# Altium integrated library TI_Logic_Specialty_Logic.IntLib: 2504 symbols (part 71 of 81)
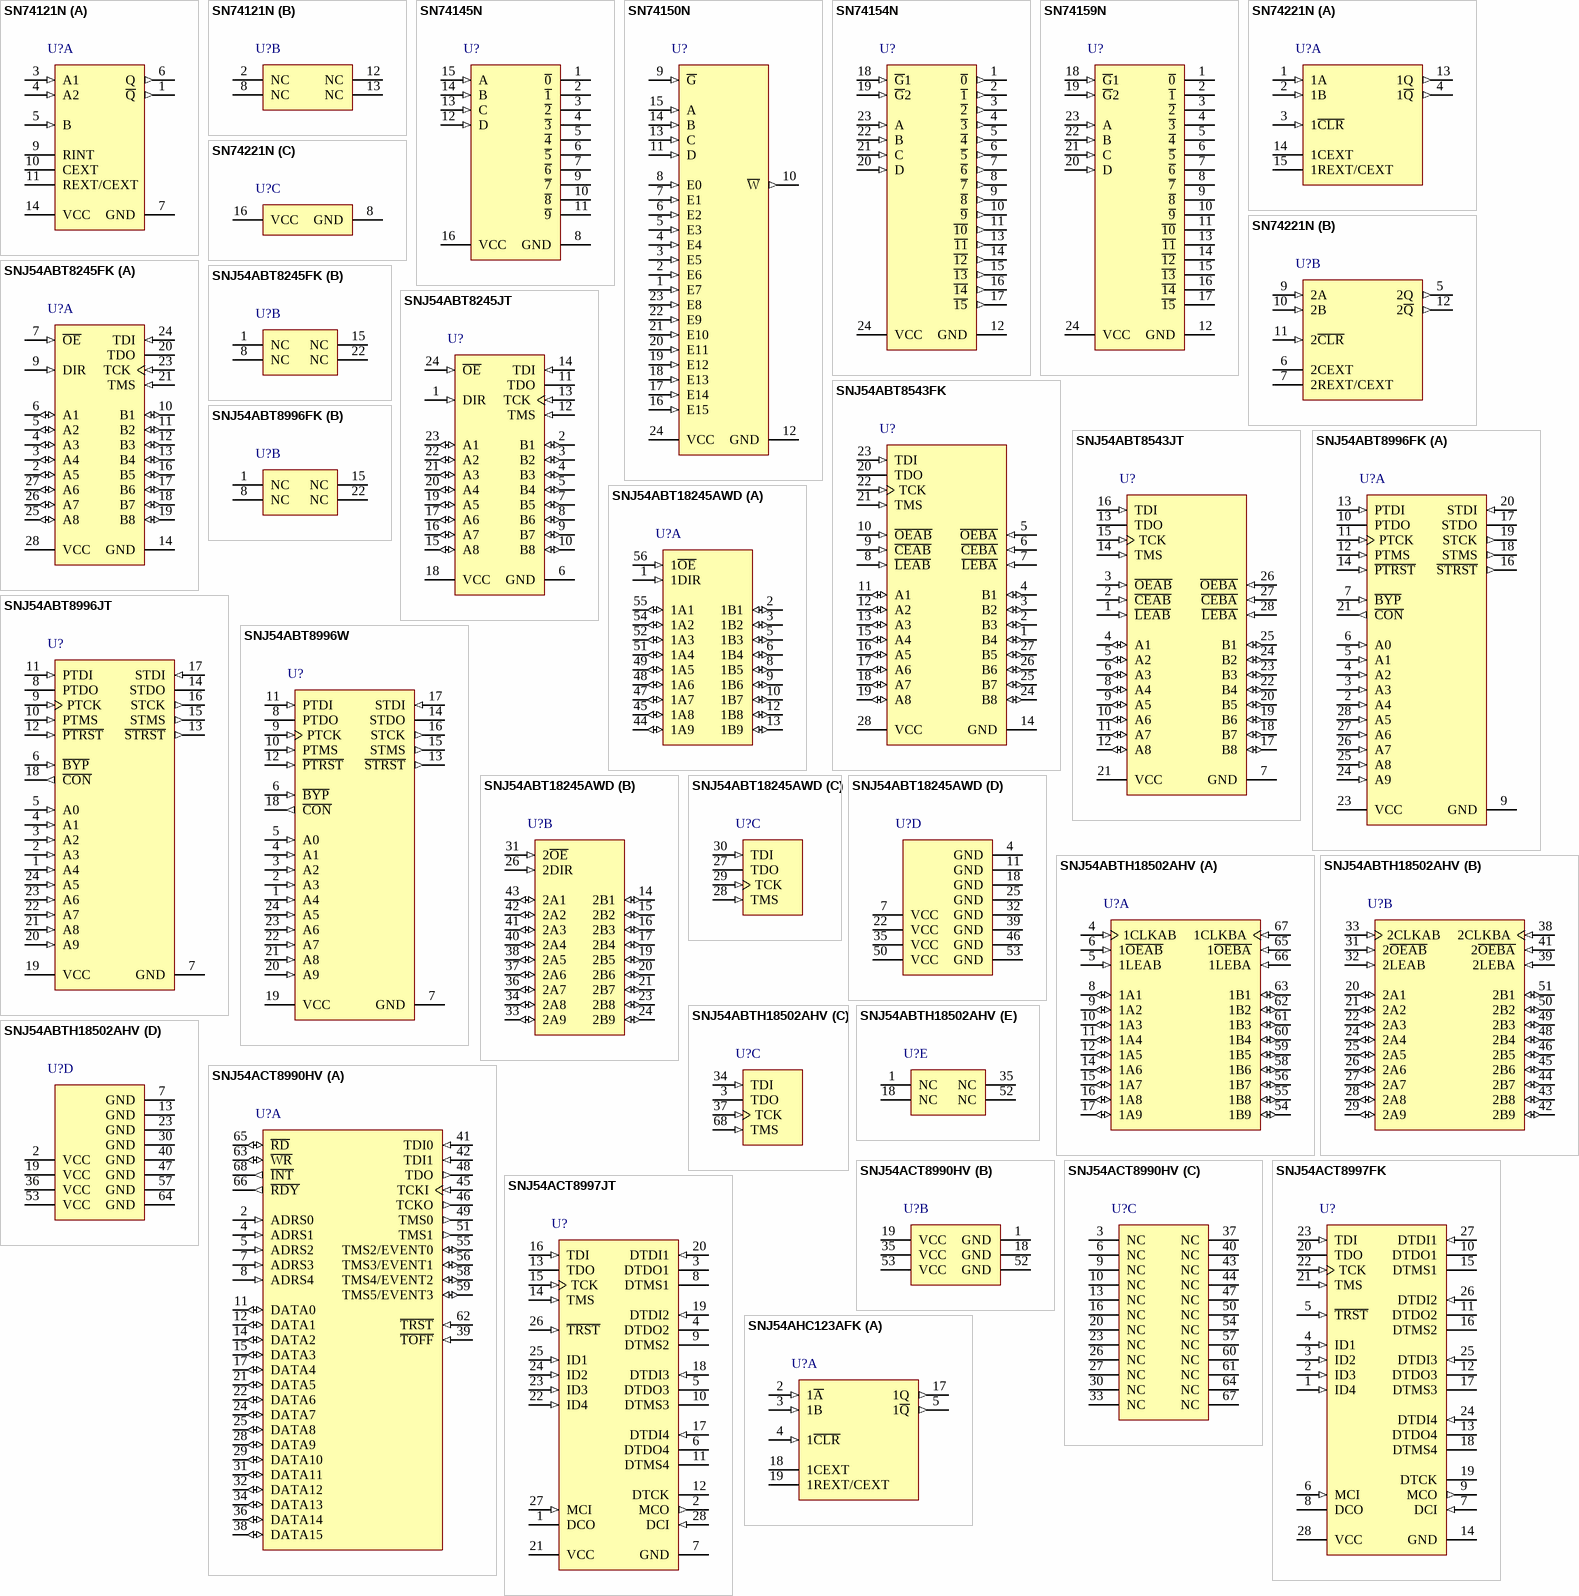
[diagram p174: symbols SN74121N to SNJ54AHC123AFK]

## SNJ54ACT8997FK
designator U?
Scan Path Linkers With 4-Bit Identification Buses, FK0028A, TUBE; Generic Part Number: SN54ACT8997; Manufacturer: Texas Instruments; PartNumber: SNJ54ACT8997FK; VCC(Min)(V): 4.5; VCC(Max)(V): 5.5; Output Type: CMOS; Input Type: TTL; Rating: Military; Technology Family: ACT; DatasheetVersion: SCAS157D; PackageReference: FK0028A; Operating Temperature Range(C): -55 to 125; Code_JEDEC: MS-004; ComponentLink1Description: Manufacturer URL; ComponentLink1URL: http://www.ti.com/; ComponentLink2Description: Datasheet; ComponentLink2URL: http://www.ti.com/lit/ds/symlink/sn54act8997.pdf; ComponentLink3Description: Package Specification; ComponentLink3URL: http://www.ti.com/lit/ml/mlcc006d/mlcc006d.pdf
footprint FD0028A_N (LCC, 28-Leads, Body 11.43x11.43mm, Pitch 1.27mm, IPC Medium Density)
footprint FD0028A_M (LCC, 28-Leads, Body 11.43x11.43mm, Pitch 1.27mm, IPC Low Density)
footprint FD0028A_L (LCC, 28-Leads, Body 11.43x11.43mm, Pitch 1.27mm, IPC High Density)
pins: 1 ID4 (in) "Identification 1-4. This 4-bit data bus can be hardwired to provide identification of the subsystem under test. The value present on the bus can be scanned out through the boundary scan or ID bus registers.", 2 ID3 (in) "Identification 1-4. This 4-bit data bus can be hardwired to provide identification of the subsystem under test. The value present on the bus can be scanned out through the boundary scan or ID bus registers.", 3 ID2 (in) "Identification 1-4. This 4-bit data bus can be hardwired to provide identification of the subsystem under test. The value present on the bus can be scanned out through the boundary scan or ID bus registers.", 4 ID1 (in) "Identification 1-4. This 4-bit data bus can be hardwired to provide identification of the subsystem under test. The value present on the bus can be scanned out through the boundary scan or ID bus registers.", 5 ~{TRST} (in) "Test reset. This active-low input implements the optional reset terminal of IEEE Standard 1149.1. When asserted,T\R\S\T\ causes the ’ACT8997 to go to the Test-Logic-Reset state and configure the instruction register an(See Datasheet)", 6 MCI (in) "Master condition input. MCI receives interrupt and protocol signals from a primary bus controller (PBC). The level on MCI is buffered and output on MCO.", 7 DCI (in) "Device condition input. DCI receives interrupt and protocol signals from the secondary scan path(s). When the counter register is instructed to count up or down, DCI is configured as the counter clock.", 8 DCO (hiz) "Device condition output. DCO is configured by the control register to output protocol and interrupt signals and can be configured by the control register to output an error signal if the instruction register is loaded with (See Datasheet)", 9 MCO (out) "Master condition output. MCO transmits interrupt and protocol signals to the secondary scan path(s).", 10 DTDO1 (hiz) "Device test data output 1-4. These outputs send serial test data to the TDI input(s) of the secondary scan path(s).", 11 DTDO2 (hiz) "Device test data output 1-4. These outputs send serial test data to the TDI input(s) of the secondary scan path(s).", 12 DTDO3 (hiz) "Device test data output 1-4. These outputs send serial test data to the TDI input(s) of the secondary scan path(s).", 13 DTDO4 (hiz) "Device test data output 1-4. These outputs send serial test data to the TDI input(s) of the secondary scan path(s).", 14 GND (power) "Ground", 15 DTMS1 (hiz) "Device test mode select 1-4. Any combination of these four outputs can be selected to follow TMS to direct the secondary scan path(s) through the TAP controller states in Figure 1. The unselected DTMS outputs can be set (See Datasheet)", 16 DTMS2 (hiz) "Device test mode select 1-4. Any combination of these four outputs can be selected to follow TMS to direct the secondary scan path(s) through the TAP controller states in Figure 1. The unselected DTMS outputs can be set (See Datasheet)", 17 DTMS3 (hiz) "Device test mode select 1-4. Any combination of these four outputs can be selected to follow TMS to direct the secondary scan path(s) through the TAP controller states in Figure 1. The unselected DTMS outputs can be set (See Datasheet)", 18 DTMS4 (hiz) "Device test mode select 1-4. Any combination of these four outputs can be selected to follow TMS to direct the secondary scan path(s) through the TAP controller states in Figure 1. The unselected DTMS outputs can be set (See Datasheet)", 19 DTCK (hiz) "Device test clock. DTCK outputs the buffered test clock TCK to the secondary scan path(s).", 20 TDO (hiz) "Test data output. One of four terminals required by IEEE Standard 1149.1. TDO is the serial output for shifting information out of the instruction register or selected data register. TDO is typically connected to the TDI of (See Datasheet)", 21 TMS (in) "Test mode select. One of four terminals required by IEEE Standard 1149.1. The level of TMS at the rising edge of TCK directs the ’ACT8997 through its TAP controller states. An internal pullup forces TMS to a high level i(See Datasheet)", 22 TCK (in) "Test clock. One of four terminals required by IEEE Standard 1149.1. All operations of the ’ACT8997 except for the count function are synchronous to TCK. Data on the device inputs is captured on the rising edge of TCK, an(See Datasheet)", 23 TDI (in) "Test data input. One of four terminals required by IEEE Standard 1149.1. TDI is the serial input for shifting information into the instruction register or selected data register. TDI is typically driven by the TDO of the PBC.(See Datasheet)", 24 DTDI4 (in) "Device test data output 1-4. These outputs send serial test data to the TDI input(s) of the secondary scan path(s).", 25 DTDI3 (in) "Device test data output 1-4. These outputs send serial test data to the TDI input(s) of the secondary scan path(s).", 26 DTDI2 (in) "Device test data output 1-4. These outputs send serial test data to the TDI input(s) of the secondary scan path(s).", 27 DTDI1 (in) "Device test data output 1-4. These outputs send serial test data to the TDI input(s) of the secondary scan path(s).", 28 VCC (power) "Supply voltage"

## SNJ54ACT8997JT
designator U?
Scan Path Linkers With 4-Bit Identification Buses, JT0028A, TUBE; Generic Part Number: SN54ACT8997; Manufacturer: Texas Instruments; PartNumber: SNJ54ACT8997JT; VCC(Min)(V): 4.5; VCC(Max)(V): 5.5; Output Type: CMOS; Input Type: TTL; Rating: Military; Technology Family: ACT; DatasheetVersion: SCAS157D; PackageReference: JT0028A; Operating Temperature Range(C): -55 to 125; ComponentLink1Description: Manufacturer URL; ComponentLink1URL: http://www.ti.com/; ComponentLink2Description: Datasheet; ComponentLink2URL: http://www.ti.com/lit/ds/symlink/sn54act8997.pdf
footprint JT0028A (DIP, 28-Leads, Body 37.1x7.2mm, Pitch 2.54mm)
pins: 1 DCO (hiz) "Device condition output. DCO is configured by the control register to output protocol and interrupt signals and can be configured by the control register to output an error signal if the instruction register is loaded with (See Datasheet)", 2 MCO (out) "Master condition output. MCO transmits interrupt and protocol signals to the secondary scan path(s).", 3 DTDO1 (hiz) "Device test data output 1-4. These outputs send serial test data to the TDI input(s) of the secondary scan path(s).", 4 DTDO2 (hiz) "Device test data output 1-4. These outputs send serial test data to the TDI input(s) of the secondary scan path(s).", 5 DTDO3 (hiz) "Device test data output 1-4. These outputs send serial test data to the TDI input(s) of the secondary scan path(s).", 6 DTDO4 (hiz) "Device test data output 1-4. These outputs send serial test data to the TDI input(s) of the secondary scan path(s).", 7 GND (power) "Ground", 8 DTMS1 (hiz) "Device test mode select 1-4. Any combination of these four outputs can be selected to follow TMS to direct the secondary scan path(s) through the TAP controller states in Figure 1. The unselected DTMS outputs can be set (See Datasheet)", 9 DTMS2 (hiz) "Device test mode select 1-4. Any combination of these four outputs can be selected to follow TMS to direct the secondary scan path(s) through the TAP controller states in Figure 1. The unselected DTMS outputs can be set (See Datasheet)", 10 DTMS3 (hiz) "Device test mode select 1-4. Any combination of these four outputs can be selected to follow TMS to direct the secondary scan path(s) through the TAP controller states in Figure 1. The unselected DTMS outputs can be set (See Datasheet)", 11 DTMS4 (hiz) "Device test mode select 1-4. Any combination of these four outputs can be selected to follow TMS to direct the secondary scan path(s) through the TAP controller states in Figure 1. The unselected DTMS outputs can be set (See Datasheet)", 12 DTCK (hiz) "Device test clock. DTCK outputs the buffered test clock TCK to the secondary scan path(s).", 13 TDO (hiz) "Test data output. One of four terminals required by IEEE Standard 1149.1. TDO is the serial output for shifting information out of the instruction register or selected data register. TDO is typically connected to the TDI of (See Datasheet)", 14 TMS (in) "Test mode select. One of four terminals required by IEEE Standard 1149.1. The level of TMS at the rising edge of TCK directs the ’ACT8997 through its TAP controller states. An internal pullup forces TMS to a high level i(See Datasheet)", 15 TCK (in) "Test clock. One of four terminals required by IEEE Standard 1149.1. All operations of the ’ACT8997 except for the count function are synchronous to TCK. Data on the device inputs is captured on the rising edge of TCK, an(See Datasheet)", 16 TDI (in) "Test data input. One of four terminals required by IEEE Standard 1149.1. TDI is the serial input for shifting information into the instruction register or selected data register. TDI is typically driven by the TDO of the PBC.(See Datasheet)", 17 DTDI4 (in) "Device test data input 1-4. DTDI1-DTDI4 receive the serial test data output(s) of the selected secondary scan path(s). An internal pullup forces DTDI1-DTDI4 to a high logic level if it is left unconnected.", 18 DTDI3 (in) "Device test data input 1-4. DTDI1-DTDI4 receive the serial test data output(s) of the selected secondary scan path(s). An internal pullup forces DTDI1-DTDI4 to a high logic level if it is left unconnected.", 19 DTDI2 (in) "Device test data input 1-4. DTDI1-DTDI4 receive the serial test data output(s) of the selected secondary scan path(s). An internal pullup forces DTDI1-DTDI4 to a high logic level if it is left unconnected.", 20 DTDI1 (in) "Device test data input 1-4. DTDI1-DTDI4 receive the serial test data output(s) of the selected secondary scan path(s). An internal pullup forces DTDI1-DTDI4 to a high logic level if it is left unconnected.", 21 VCC (power) "Supply voltage", 22 ID4 (in) "Identification 1-4. This 4-bit data bus can be hardwired to provide identification of the subsystem under test. The value present on the bus can be scanned out through the boundary scan or ID bus registers.", 23 ID3 (in) "Identification 1-4. This 4-bit data bus can be hardwired to provide identification of the subsystem under test. The value present on the bus can be scanned out through the boundary scan or ID bus registers.", 24 ID2 (in) "Identification 1-4. This 4-bit data bus can be hardwired to provide identification of the subsystem under test. The value present on the bus can be scanned out through the boundary scan or ID bus registers.", 25 ID1 (in) "Identification 1-4. This 4-bit data bus can be hardwired to provide identification of the subsystem under test. The value present on the bus can be scanned out through the boundary scan or ID bus registers.", 26 ~{TRST} (in) "Test reset. This active-low input implements the optional reset terminal of IEEE Standard 1149.1. When asserted,T\R\S\T\ causes the ’ACT8997 to go to the Test-Logic-Reset state and configure the instruction register an(See Datasheet)", 27 MCI (in) "Master condition input. MCI receives interrupt and protocol signals from a primary bus controller (PBC). The level on MCI is buffered and output on MCO.", 28 DCI (in) "Device condition input. DCI receives interrupt and protocol signals from the secondary scan path(s). When the counter register is instructed to count up or down, DCI is configured as the counter clock."

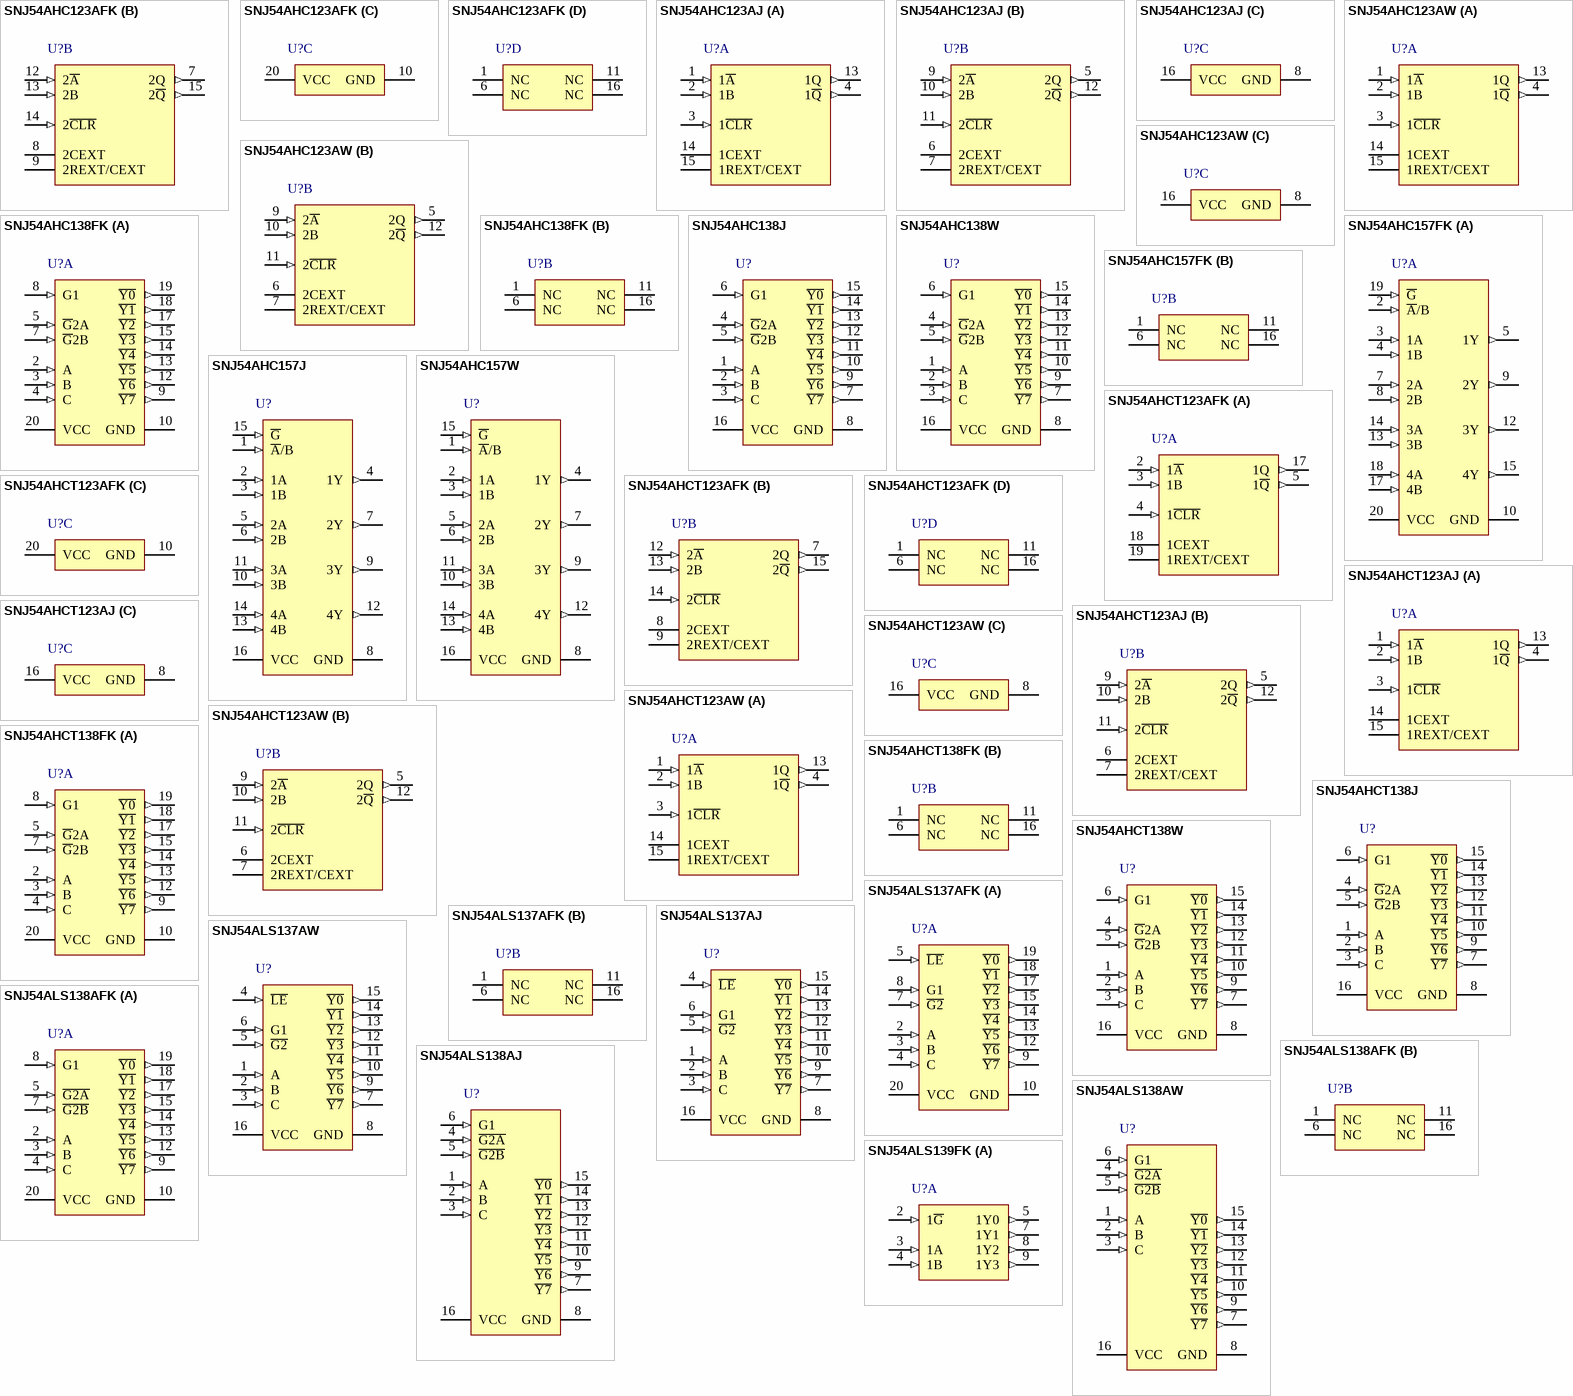
[diagram p87: symbols SNJ54AHC123AFK to SNJ54ALS139FK]

## SNJ54AHC123AFK
designator U?
DUAL RETRIGGERABLE MONOSTABLE MULTIVIBRATORS, FK0020A, TUBE; Generic Part Number: SN54AHC123A; Manufacturer: Texas Instruments; PartNumber: SNJ54AHC123AFK; VCC(Min)(V): 2; VCC(Max)(V): 5.5; Output Type: CMOS; ICC @ Nom Voltage(Max)(mA): 0.04; F @ Nom Voltage(Max)(Mhz): 110; Rating: Military; Technology Family: AHC; Voltage(Nom)(V): 3.3,5; Output Drive (IOL/IOH)(Max)(mA): 50/-50; tpd @ Nom Voltage(Max)(ns): 29.5,17; DatasheetVersion: SCLS352H; PackageReference: FK0020A; Input Type: CMOS; Bits(#): 2; Operating Temperature Range(C): -55 to 125; Code_JEDEC: MS-004; ComponentLink1Description: Manufacturer URL; ComponentLink1URL: http://www.ti.com/; ComponentLink2Description: Datasheet; ComponentLink2URL: http://www.ti.com/lit/ds/symlink/sn54ahc123a.pdf; ComponentLink3Description: Package Specification; ComponentLink3URL: http://www.ti.com/lit/ml/mlcc006d/mlcc006d.pdf
footprint FK0020A_N (LCC, 20-Leads, Body 8.9x8.9mm, Pitch 1.27mm, IPC Medium Density)
footprint FK0020A_M (LCC, 20-Leads, Body 8.9x8.9mm, Pitch 1.27mm, IPC Low Density)
footprint FK0020A_L (LCC, 20-Leads, Body 8.9x8.9mm, Pitch 1.27mm, IPC High Density)
part A pins: 2 1~{A} (in), 3 1B (in), 4 1~{CLR} (in), 5 1~{Q} (out), 17 1Q (out), 18 1CEXT, 19 1REXT/CEXT
part B pins: 7 2Q (out), 8 2CEXT, 9 2REXT/CEXT, 12 2~{A} (in), 13 2B (in), 14 2~{CLR} (in), 15 2~{Q} (out)
part C pins: 10 GND (power), 20 VCC (power)
part D pins: 1 NC, 6 NC, 11 NC, 16 NC

## SNJ54AHC123AJ
designator U?
DUAL RETRIGGERABLE MONOSTABLE MULTIVIBRATORS, J0016A, TUBE; Generic Part Number: SN54AHC123A; Manufacturer: Texas Instruments; PartNumber: SNJ54AHC123AJ; VCC(Min)(V): 2; VCC(Max)(V): 5.5; Output Type: CMOS; ICC @ Nom Voltage(Max)(mA): 0.04; F @ Nom Voltage(Max)(Mhz): 110; Rating: Military; Technology Family: AHC; Voltage(Nom)(V): 3.3,5; Output Drive (IOL/IOH)(Max)(mA): 50/-50; tpd @ Nom Voltage(Max)(ns): 29.5,17; DatasheetVersion: SCLS352H; PackageReference: J0016A; Input Type: CMOS; Bits(#): 2; Operating Temperature Range(C): -55 to 125; ComponentLink1Description: Manufacturer URL; ComponentLink1URL: http://www.ti.com/; ComponentLink2Description: Datasheet; ComponentLink2URL: http://www.ti.com/lit/ds/symlink/sn54ahc123a.pdf; ComponentLink3Description: Package Specification; ComponentLink3URL: http://www.ti.com/lit/ml/mcer002d/mcer002d.pdf
footprint J0016A (DIP, 16-Leads, Body 21.35x7.2mm, Pitch 2.54mm)
part A pins: 1 1~{A} (in), 2 1B (in), 3 1~{CLR} (in), 4 1~{Q} (out), 13 1Q (out), 14 1CEXT, 15 1REXT/CEXT
part B pins: 5 2Q (out), 6 2CEXT, 7 2REXT/CEXT, 9 2~{A} (in), 10 2B (in), 11 2~{CLR} (in), 12 2~{Q} (out)
part C pins: 8 GND (power), 16 VCC (power)

## SNJ54AHC123AW
designator U?
DUAL RETRIGGERABLE MONOSTABLE MULTIVIBRATORS, W0016A, TUBE; Generic Part Number: SN54AHC123A; Manufacturer: Texas Instruments; PartNumber: SNJ54AHC123AW; VCC(Min)(V): 2; VCC(Max)(V): 5.5; Output Type: CMOS; ICC @ Nom Voltage(Max)(mA): 0.04; F @ Nom Voltage(Max)(Mhz): 110; Rating: Military; Technology Family: AHC; Voltage(Nom)(V): 3.3,5; Output Drive (IOL/IOH)(Max)(mA): 50/-50; tpd @ Nom Voltage(Max)(ns): 29.5,17; DatasheetVersion: SCLS352H; PackageReference: W0016A; Input Type: CMOS; Bits(#): 2; Operating Temperature Range(C): -55 to 125; ComponentLink1Description: Manufacturer URL; ComponentLink1URL: http://www.ti.com/; ComponentLink2Description: Datasheet; ComponentLink2URL: http://www.ti.com/lit/ds/symlink/sn54ahc123a.pdf; ComponentLink3Description: Package Specification; ComponentLink3URL: http://www.ti.com/lit/ml/mcfp004c/mcfp004c.pdf
footprint W0016A_N (CFP, 16-Leads, Body 10.92x7.24mm, Pitch 1.27mm, IPC Medium Density)
footprint W0016A_M (CFP, 16-Leads, Body 10.92x7.24mm, Pitch 1.27mm, IPC Low Density)
footprint W0016A_L (CFP, 16-Leads, Body 10.92x7.24mm, Pitch 1.27mm, IPC High Density)
part A pins: 1 1~{A} (in), 2 1B (in), 3 1~{CLR} (in), 4 1~{Q} (out), 13 1Q (out), 14 1CEXT, 15 1REXT/CEXT
part B pins: 5 2Q (out), 6 2CEXT, 7 2REXT/CEXT, 9 2~{A} (in), 10 2B (in), 11 2~{CLR} (in), 12 2~{Q} (out)
part C pins: 8 GND (power), 16 VCC (power)

## SNJ54AHC138FK
designator U?
3-Line To 8-Line Decoders/Demultiplexers, FK0020A, TUBE; Generic Part Number: SN54AHC138; Manufacturer: Texas Instruments; PartNumber: SNJ54AHC138FK; VCC(Min)(V): 2; VCC(Max)(V): 5.5; ICC @ Nom Voltage(Max)(mA): 0.04; F @ Nom Voltage(Max)(Mhz): 110; Rating: Military; Technology Family: AHC; Voltage(Nom)(V): 3.3,5; Schmitt Trigger: No; Output Drive (IOL/IOH)(Max)(mA): 50/-50; tpd @ Nom Voltage(Max)(ns): 13,9.5; DatasheetVersion: SCLS258L; PackageReference: FK0020A; Operating Temperature Range(C): -55 to 125; Code_JEDEC: MS-004; ComponentLink1Description: Manufacturer URL; ComponentLink1URL: http://www.ti.com/; ComponentLink2Description: Datasheet; ComponentLink2URL: http://www.ti.com/lit/ds/symlink/sn54ahc138.pdf; ComponentLink3Description: Package Specification; ComponentLink3URL: http://www.ti.com/lit/ml/mlcc006d/mlcc006d.pdf
footprint FK0020A_N (LCC, 20-Leads, Body 8.9x8.9mm, Pitch 1.27mm, IPC Medium Density)
footprint FK0020A_M (LCC, 20-Leads, Body 8.9x8.9mm, Pitch 1.27mm, IPC Low Density)
footprint FK0020A_L (LCC, 20-Leads, Body 8.9x8.9mm, Pitch 1.27mm, IPC High Density)
part A pins: 2 A (in), 3 B (in), 4 C (in), 5 ~{G}2A (in), 7 ~{G}2B (in), 8 G1 (in), 9 ~{Y7} (out), 10 GND (power), 12 ~{Y6} (out), 13 ~{Y5} (out), 14 ~{Y4} (out), 15 ~{Y3} (out), 17 ~{Y2} (out), 18 ~{Y1} (out), 19 ~{Y0} (out), 20 VCC (power)
part B pins: 1 NC, 6 NC, 11 NC, 16 NC

## SNJ54AHC138J
designator U?
3-Line To 8-Line Decoders/Demultiplexers, J0016A, TUBE; Generic Part Number: SN54AHC138; Manufacturer: Texas Instruments; PartNumber: SNJ54AHC138J; VCC(Min)(V): 2; VCC(Max)(V): 5.5; ICC @ Nom Voltage(Max)(mA): 0.04; F @ Nom Voltage(Max)(Mhz): 110; Rating: Military; Technology Family: AHC; Voltage(Nom)(V): 3.3,5; Schmitt Trigger: No; Output Drive (IOL/IOH)(Max)(mA): 50/-50; tpd @ Nom Voltage(Max)(ns): 13,9.5; DatasheetVersion: SCLS258L; PackageReference: J0016A; Operating Temperature Range(C): -55 to 125; ComponentLink1Description: Manufacturer URL; ComponentLink1URL: http://www.ti.com/; ComponentLink2Description: Datasheet; ComponentLink2URL: http://www.ti.com/lit/ds/symlink/sn54ahc138.pdf; ComponentLink3Description: Package Specification; ComponentLink3URL: http://www.ti.com/lit/ml/mcer002d/mcer002d.pdf
footprint J0016A (DIP, 16-Leads, Body 21.35x7.2mm, Pitch 2.54mm)
pins: 1 A (in), 2 B (in), 3 C (in), 4 ~{G}2A (in), 5 ~{G}2B (in), 6 G1 (in), 7 ~{Y7} (out), 8 GND (power), 9 ~{Y6} (out), 10 ~{Y5} (out), 11 ~{Y4} (out), 12 ~{Y3} (out), 13 ~{Y2} (out), 14 ~{Y1} (out), 15 ~{Y0} (out), 16 VCC (power)

## SNJ54AHC138W
designator U?
3-Line To 8-Line Decoders/Demultiplexers, W0016A, TUBE; Generic Part Number: SN54AHC138; Manufacturer: Texas Instruments; PartNumber: SNJ54AHC138W; VCC(Min)(V): 2; VCC(Max)(V): 5.5; ICC @ Nom Voltage(Max)(mA): 0.04; F @ Nom Voltage(Max)(Mhz): 110; Rating: Military; Technology Family: AHC; Voltage(Nom)(V): 3.3,5; Schmitt Trigger: No; Output Drive (IOL/IOH)(Max)(mA): 50/-50; tpd @ Nom Voltage(Max)(ns): 13,9.5; DatasheetVersion: SCLS258L; PackageReference: W0016A; Operating Temperature Range(C): -55 to 125; ComponentLink1Description: Manufacturer URL; ComponentLink1URL: http://www.ti.com/; ComponentLink2Description: Datasheet; ComponentLink2URL: http://www.ti.com/lit/ds/symlink/sn54ahc138.pdf; ComponentLink3Description: Package Specification; ComponentLink3URL: http://www.ti.com/lit/ml/mcfp004c/mcfp004c.pdf
footprint W0016A_N (CFP, 16-Leads, Body 10.92x7.24mm, Pitch 1.27mm, IPC Medium Density)
footprint W0016A_M (CFP, 16-Leads, Body 10.92x7.24mm, Pitch 1.27mm, IPC Low Density)
footprint W0016A_L (CFP, 16-Leads, Body 10.92x7.24mm, Pitch 1.27mm, IPC High Density)
pins: 1 A (in), 2 B (in), 3 C (in), 4 ~{G}2A (in), 5 ~{G}2B (in), 6 G1 (in), 7 ~{Y7} (out), 8 GND (power), 9 ~{Y6} (out), 10 ~{Y5} (out), 11 ~{Y4} (out), 12 ~{Y3} (out), 13 ~{Y2} (out), 14 ~{Y1} (out), 15 ~{Y0} (out), 16 VCC (power)

## SNJ54AHC157FK
designator U?
Quadruple 2-Line To 1-Line Data Selectors/Multiplexers, FK0020A, TUBE; Generic Part Number: SN54AHC157; Manufacturer: Texas Instruments; PartNumber: SNJ54AHC157FK; VCC(Min)(V): 2; VCC(Max)(V): 5.5; ICC @ Nom Voltage(Max)(mA): 0.04; F @ Nom Voltage(Max)(Mhz): 110; Rating: Military; Technology Family: AHC; Voltage(Nom)(V): 3.3,5; Schmitt Trigger: No; Output Drive (IOL/IOH)(Max)(mA): 50/-50; tpd @ Nom Voltage(Max)(ns): 11.5,7.5; DatasheetVersion: SCLS345J; PackageReference: FK0020A; Operating Temperature Range(C): -55 to 125; Code_JEDEC: MS-004; ComponentLink1Description: Manufacturer URL; ComponentLink1URL: http://www.ti.com/; ComponentLink2Description: Datasheet; ComponentLink2URL: http://www.ti.com/lit/ds/symlink/sn54ahc157.pdf; ComponentLink3Description: Package Specification; ComponentLink3URL: http://www.ti.com/lit/ml/mlcc006d/mlcc006d.pdf
footprint FK0020A_N (LCC, 20-Leads, Body 8.9x8.9mm, Pitch 1.27mm, IPC Medium Density)
footprint FK0020A_M (LCC, 20-Leads, Body 8.9x8.9mm, Pitch 1.27mm, IPC Low Density)
footprint FK0020A_L (LCC, 20-Leads, Body 8.9x8.9mm, Pitch 1.27mm, IPC High Density)
part A pins: 2 ~{A}/B (in), 3 1A (in), 4 1B (in), 5 1Y (out), 7 2A (in), 8 2B (in), 9 2Y (out), 10 GND (power), 12 3Y (out), 13 3B (in), 14 3A (in), 15 4Y (out), 17 4B (in), 18 4A (in), 19 ~{G} (in), 20 VCC (power)
part B pins: 1 NC, 6 NC, 11 NC, 16 NC

## SNJ54AHC157J
designator U?
Quadruple 2-Line To 1-Line Data Selectors/Multiplexers, J0016A, TUBE; Generic Part Number: SN54AHC157; Manufacturer: Texas Instruments; PartNumber: SNJ54AHC157J; VCC(Min)(V): 2; VCC(Max)(V): 5.5; ICC @ Nom Voltage(Max)(mA): 0.04; F @ Nom Voltage(Max)(Mhz): 110; Rating: Military; Technology Family: AHC; Voltage(Nom)(V): 3.3,5; Schmitt Trigger: No; Output Drive (IOL/IOH)(Max)(mA): 50/-50; tpd @ Nom Voltage(Max)(ns): 11.5,7.5; DatasheetVersion: SCLS345J; PackageReference: J0016A; Operating Temperature Range(C): -55 to 125; ComponentLink1Description: Manufacturer URL; ComponentLink1URL: http://www.ti.com/; ComponentLink2Description: Datasheet; ComponentLink2URL: http://www.ti.com/lit/ds/symlink/sn54ahc157.pdf; ComponentLink3Description: Package Specification; ComponentLink3URL: http://www.ti.com/lit/ml/mcer002d/mcer002d.pdf
footprint J0016A (DIP, 16-Leads, Body 21.35x7.2mm, Pitch 2.54mm)
pins: 1 ~{A}/B (in), 2 1A (in), 3 1B (in), 4 1Y (out), 5 2A (in), 6 2B (in), 7 2Y (out), 8 GND (power), 9 3Y (out), 10 3B (in), 11 3A (in), 12 4Y (out), 13 4B (in), 14 4A (in), 15 ~{G} (in), 16 VCC (power)

## SNJ54AHC157W
designator U?
Quadruple 2-Line To 1-Line Data Selectors/Multiplexers, W0016A, TUBE; Generic Part Number: SN54AHC157; Manufacturer: Texas Instruments; PartNumber: SNJ54AHC157W; VCC(Min)(V): 2; VCC(Max)(V): 5.5; ICC @ Nom Voltage(Max)(mA): 0.04; F @ Nom Voltage(Max)(Mhz): 110; Rating: Military; Technology Family: AHC; Voltage(Nom)(V): 3.3,5; Schmitt Trigger: No; Output Drive (IOL/IOH)(Max)(mA): 50/-50; tpd @ Nom Voltage(Max)(ns): 11.5,7.5; DatasheetVersion: SCLS345J; PackageReference: W0016A; Operating Temperature Range(C): -55 to 125; ComponentLink1Description: Manufacturer URL; ComponentLink1URL: http://www.ti.com/; ComponentLink2Description: Datasheet; ComponentLink2URL: http://www.ti.com/lit/ds/symlink/sn54ahc157.pdf; ComponentLink3Description: Package Specification; ComponentLink3URL: http://www.ti.com/lit/ml/mcfp004c/mcfp004c.pdf
footprint W0016A_N (CFP, 16-Leads, Body 10.92x7.24mm, Pitch 1.27mm, IPC Medium Density)
footprint W0016A_M (CFP, 16-Leads, Body 10.92x7.24mm, Pitch 1.27mm, IPC Low Density)
footprint W0016A_L (CFP, 16-Leads, Body 10.92x7.24mm, Pitch 1.27mm, IPC High Density)
pins: 1 ~{A}/B (in), 2 1A (in), 3 1B (in), 4 1Y (out), 5 2A (in), 6 2B (in), 7 2Y (out), 8 GND (power), 9 3Y (out), 10 3B (in), 11 3A (in), 12 4Y (out), 13 4B (in), 14 4A (in), 15 ~{G} (in), 16 VCC (power)

## SNJ54AHCT123AFK
designator U?
DUAL RETRIGGERABLE MONOSTABLE MULTIVIBRATORS, FK0020A, TUBE; Generic Part Number: SN54AHCT123A; Manufacturer: Texas Instruments; PartNumber: SNJ54AHCT123AFK; VCC(Min)(V): 4.5; VCC(Max)(V): 5.5; Output Type: CMOS; ICC @ Nom Voltage(Max)(mA): 0.975; Input Type: TTL; Bits(#): 2; Rating: Military; Technology Family: AHCT; Output Drive (IOL/IOH)(Max)(mA): 8/-8; tpd @ Nom Voltage(Max)(ns): 15; DatasheetVersion: SCLS420G; PackageReference: FK0020A; Operating Temperature Range(C): -55 to 125; Code_JEDEC: MS-004; ComponentLink1Description: Manufacturer URL; ComponentLink1URL: http://www.ti.com/; ComponentLink2Description: Datasheet; ComponentLink2URL: http://www.ti.com/lit/ds/symlink/sn54ahct123a.pdf; ComponentLink3Description: Package Specification; ComponentLink3URL: http://www.ti.com/lit/ml/mlcc006d/mlcc006d.pdf
footprint FK0020A_N (LCC, 20-Leads, Body 8.9x8.9mm, Pitch 1.27mm, IPC Medium Density)
footprint FK0020A_M (LCC, 20-Leads, Body 8.9x8.9mm, Pitch 1.27mm, IPC Low Density)
footprint FK0020A_L (LCC, 20-Leads, Body 8.9x8.9mm, Pitch 1.27mm, IPC High Density)
part A pins: 2 1~{A} (in), 3 1B (in), 4 1~{CLR} (in), 5 1~{Q} (out), 17 1Q (out), 18 1CEXT, 19 1REXT/CEXT
part B pins: 7 2Q (out), 8 2CEXT, 9 2REXT/CEXT, 12 2~{A} (in), 13 2B (in), 14 2~{CLR} (in), 15 2~{Q} (out)
part C pins: 10 GND (power), 20 VCC (power)
part D pins: 1 NC, 6 NC, 11 NC, 16 NC

## SNJ54AHCT123AJ
designator U?
DUAL RETRIGGERABLE MONOSTABLE MULTIVIBRATORS, J0016A, TUBE; Generic Part Number: SN54AHCT123A; Manufacturer: Texas Instruments; PartNumber: SNJ54AHCT123AJ; VCC(Min)(V): 4.5; VCC(Max)(V): 5.5; Output Type: CMOS; ICC @ Nom Voltage(Max)(mA): 0.975; Input Type: TTL; Bits(#): 2; Rating: Military; Technology Family: AHCT; Output Drive (IOL/IOH)(Max)(mA): 8/-8; tpd @ Nom Voltage(Max)(ns): 15; DatasheetVersion: SCLS420G; PackageReference: J0016A; Operating Temperature Range(C): -55 to 125; ComponentLink1Description: Manufacturer URL; ComponentLink1URL: http://www.ti.com/; ComponentLink2Description: Datasheet; ComponentLink2URL: http://www.ti.com/lit/ds/symlink/sn54ahct123a.pdf; ComponentLink3Description: Package Specification; ComponentLink3URL: http://www.ti.com/lit/ml/mcer002d/mcer002d.pdf
footprint J0016A (DIP, 16-Leads, Body 21.35x7.2mm, Pitch 2.54mm)
part A pins: 1 1~{A} (in), 2 1B (in), 3 1~{CLR} (in), 4 1~{Q} (out), 13 1Q (out), 14 1CEXT, 15 1REXT/CEXT
part B pins: 5 2Q (out), 6 2CEXT, 7 2REXT/CEXT, 9 2~{A} (in), 10 2B (in), 11 2~{CLR} (in), 12 2~{Q} (out)
part C pins: 8 GND (power), 16 VCC (power)

## SNJ54AHCT123AW
designator U?
DUAL RETRIGGERABLE MONOSTABLE MULTIVIBRATORS, W0016A, TUBE; Generic Part Number: SN54AHCT123A; Manufacturer: Texas Instruments; PartNumber: SNJ54AHCT123AW; VCC(Min)(V): 4.5; VCC(Max)(V): 5.5; Output Type: CMOS; ICC @ Nom Voltage(Max)(mA): 0.975; Input Type: TTL; Bits(#): 2; Rating: Military; Technology Family: AHCT; Output Drive (IOL/IOH)(Max)(mA): 8/-8; tpd @ Nom Voltage(Max)(ns): 15; DatasheetVersion: SCLS420G; PackageReference: W0016A; Operating Temperature Range(C): -55 to 125; ComponentLink1Description: Manufacturer URL; ComponentLink1URL: http://www.ti.com/; ComponentLink2Description: Datasheet; ComponentLink2URL: http://www.ti.com/lit/ds/symlink/sn54ahct123a.pdf; ComponentLink3Description: Package Specification; ComponentLink3URL: http://www.ti.com/lit/ml/mcfp004c/mcfp004c.pdf
footprint W0016A_N (CFP, 16-Leads, Body 10.92x7.24mm, Pitch 1.27mm, IPC Medium Density)
footprint W0016A_M (CFP, 16-Leads, Body 10.92x7.24mm, Pitch 1.27mm, IPC Low Density)
footprint W0016A_L (CFP, 16-Leads, Body 10.92x7.24mm, Pitch 1.27mm, IPC High Density)
part A pins: 1 1~{A} (in), 2 1B (in), 3 1~{CLR} (in), 4 1~{Q} (out), 13 1Q (out), 14 1CEXT, 15 1REXT/CEXT
part B pins: 5 2Q (out), 6 2CEXT, 7 2REXT/CEXT, 9 2~{A} (in), 10 2B (in), 11 2~{CLR} (in), 12 2~{Q} (out)
part C pins: 8 GND (power), 16 VCC (power)

## SNJ54AHCT138FK
designator U?
3-Line To 8-Line Decoders/Demultiplexers, FK0020A, TUBE; Generic Part Number: SN54AHCT138; Manufacturer: Texas Instruments; PartNumber: SNJ54AHCT138FK; VCC(Min)(V): 4.5; VCC(Max)(V): 5.5; Rating: Military; Technology Family: AHCT; Schmitt Trigger: No; DatasheetVersion: SCLS266M; PackageReference: FK0020A; Operating Temperature Range(C): -55 to 125; Code_JEDEC: MS-004; ComponentLink1Description: Manufacturer URL; ComponentLink1URL: http://www.ti.com/; ComponentLink2Description: Datasheet; ComponentLink2URL: http://www.ti.com/lit/ds/symlink/sn54ahct138.pdf; ComponentLink3Description: Package Specification; ComponentLink3URL: http://www.ti.com/lit/ml/mlcc006d/mlcc006d.pdf
footprint FK0020A_N (LCC, 20-Leads, Body 8.9x8.9mm, Pitch 1.27mm, IPC Medium Density)
footprint FK0020A_M (LCC, 20-Leads, Body 8.9x8.9mm, Pitch 1.27mm, IPC Low Density)
footprint FK0020A_L (LCC, 20-Leads, Body 8.9x8.9mm, Pitch 1.27mm, IPC High Density)
part A pins: 2 A (in), 3 B (in), 4 C (in), 5 ~{G}2A (in), 7 ~{G}2B (in), 8 G1 (in), 9 ~{Y7} (out), 10 GND (power), 12 ~{Y6} (out), 13 ~{Y5} (out), 14 ~{Y4} (out), 15 ~{Y3} (out), 17 ~{Y2} (out), 18 ~{Y1} (out), 19 ~{Y0} (out), 20 VCC (power)
part B pins: 1 NC, 6 NC, 11 NC, 16 NC

## SNJ54AHCT138J
designator U?
3-Line To 8-Line Decoders/Demultiplexers, J0016A, TUBE; Generic Part Number: SN54AHCT138; Manufacturer: Texas Instruments; PartNumber: SNJ54AHCT138J; VCC(Min)(V): 4.5; VCC(Max)(V): 5.5; Rating: Military; Technology Family: AHCT; Schmitt Trigger: No; DatasheetVersion: SCLS266M; PackageReference: J0016A; Operating Temperature Range(C): -55 to 125; ComponentLink1Description: Manufacturer URL; ComponentLink1URL: http://www.ti.com/; ComponentLink2Description: Datasheet; ComponentLink2URL: http://www.ti.com/lit/ds/symlink/sn54ahct138.pdf; ComponentLink3Description: Package Specification; ComponentLink3URL: http://www.ti.com/lit/ml/mcer002d/mcer002d.pdf
footprint J0016A (DIP, 16-Leads, Body 21.35x7.2mm, Pitch 2.54mm)
pins: 1 A (in), 2 B (in), 3 C (in), 4 ~{G}2A (in), 5 ~{G}2B (in), 6 G1 (in), 7 ~{Y7} (out), 8 GND (power), 9 ~{Y6} (out), 10 ~{Y5} (out), 11 ~{Y4} (out), 12 ~{Y3} (out), 13 ~{Y2} (out), 14 ~{Y1} (out), 15 ~{Y0} (out), 16 VCC (power)

## SNJ54AHCT138W
designator U?
3-Line To 8-Line Decoders/Demultiplexers, W0016A, TUBE; Generic Part Number: SN54AHCT138; Manufacturer: Texas Instruments; PartNumber: SNJ54AHCT138W; VCC(Min)(V): 4.5; VCC(Max)(V): 5.5; Rating: Military; Technology Family: AHCT; Schmitt Trigger: No; DatasheetVersion: SCLS266M; PackageReference: W0016A; Operating Temperature Range(C): -55 to 125; ComponentLink1Description: Manufacturer URL; ComponentLink1URL: http://www.ti.com/; ComponentLink2Description: Datasheet; ComponentLink2URL: http://www.ti.com/lit/ds/symlink/sn54ahct138.pdf; ComponentLink3Description: Package Specification; ComponentLink3URL: http://www.ti.com/lit/ml/mcfp004c/mcfp004c.pdf
footprint W0016A_N (CFP, 16-Leads, Body 10.92x7.24mm, Pitch 1.27mm, IPC Medium Density)
footprint W0016A_M (CFP, 16-Leads, Body 10.92x7.24mm, Pitch 1.27mm, IPC Low Density)
footprint W0016A_L (CFP, 16-Leads, Body 10.92x7.24mm, Pitch 1.27mm, IPC High Density)
pins: 1 A (in), 2 B (in), 3 C (in), 4 ~{G}2A (in), 5 ~{G}2B (in), 6 G1 (in), 7 ~{Y7} (out), 8 GND (power), 9 ~{Y6} (out), 10 ~{Y5} (out), 11 ~{Y4} (out), 12 ~{Y3} (out), 13 ~{Y2} (out), 14 ~{Y1} (out), 15 ~{Y0} (out), 16 VCC (power)

## SNJ54ALS137AFK
designator U?
3-Line To 8-Line Decoders/Demultiplexers With Address Latches, FK0020A, TUBE; Generic Part Number: SN54ALS137A; Manufacturer: Texas Instruments; PartNumber: SNJ54ALS137AFK; VCC(Min)(V): 4.5; VCC(Max)(V): 5.5; Rating: Military; Technology Family: ALS; Schmitt Trigger: No; DatasheetVersion: SDAS203C; PackageReference: FK0020A; Operating Temperature Range(C): -55 to 125; Code_JEDEC: MS-004; ComponentLink1Description: Manufacturer URL; ComponentLink1URL: http://www.ti.com/; ComponentLink2Description: Datasheet; ComponentLink2URL: http://www.ti.com/lit/ds/symlink/sn54als137a.pdf; ComponentLink3Description: Package Specification; ComponentLink3URL: http://www.ti.com/lit/ml/mlcc006d/mlcc006d.pdf
footprint FK0020A_N (LCC, 20-Leads, Body 8.9x8.9mm, Pitch 1.27mm, IPC Medium Density)
footprint FK0020A_M (LCC, 20-Leads, Body 8.9x8.9mm, Pitch 1.27mm, IPC Low Density)
footprint FK0020A_L (LCC, 20-Leads, Body 8.9x8.9mm, Pitch 1.27mm, IPC High Density)
part A pins: 2 A (in), 3 B (in), 4 C (in), 5 ~{LE} (in), 7 ~{G2} (in), 8 G1 (in), 9 ~{Y7} (out), 10 GND (power), 12 ~{Y6} (out), 13 ~{Y5} (out), 14 ~{Y4} (out), 15 ~{Y3} (out), 17 ~{Y2} (out), 18 ~{Y1} (out), 19 ~{Y0} (out), 20 VCC (power)
part B pins: 1 NC, 6 NC, 11 NC, 16 NC

## SNJ54ALS137AJ
designator U?
3-Line To 8-Line Decoders/Demultiplexers With Address Latches, J0016A, TUBE; Generic Part Number: SN54ALS137A; Manufacturer: Texas Instruments; PartNumber: SNJ54ALS137AJ; VCC(Min)(V): 4.5; VCC(Max)(V): 5.5; Rating: Military; Technology Family: ALS; Schmitt Trigger: No; DatasheetVersion: SDAS203C; PackageReference: J0016A; Operating Temperature Range(C): -55 to 125; ComponentLink1Description: Manufacturer URL; ComponentLink1URL: http://www.ti.com/; ComponentLink2Description: Datasheet; ComponentLink2URL: http://www.ti.com/lit/ds/symlink/sn54als137a.pdf; ComponentLink3Description: Package Specification; ComponentLink3URL: http://www.ti.com/lit/ml/mcer002d/mcer002d.pdf
footprint J0016A (DIP, 16-Leads, Body 21.35x7.2mm, Pitch 2.54mm)
pins: 1 A (in), 2 B (in), 3 C (in), 4 ~{LE} (in), 5 ~{G2} (in), 6 G1 (in), 7 ~{Y7} (out), 8 GND (power), 9 ~{Y6} (out), 10 ~{Y5} (out), 11 ~{Y4} (out), 12 ~{Y3} (out), 13 ~{Y2} (out), 14 ~{Y1} (out), 15 ~{Y0} (out), 16 VCC (power)

## SNJ54ALS137AW
designator U?
3-Line To 8-Line Decoders/Demultiplexers With Address Latches, W0016A, TUBE; Generic Part Number: SN54ALS137A; Manufacturer: Texas Instruments; PartNumber: SNJ54ALS137AW; VCC(Min)(V): 4.5; VCC(Max)(V): 5.5; Rating: Military; Technology Family: ALS; Schmitt Trigger: No; DatasheetVersion: SDAS203C; PackageReference: W0016A; Operating Temperature Range(C): -55 to 125; ComponentLink1Description: Manufacturer URL; ComponentLink1URL: http://www.ti.com/; ComponentLink2Description: Datasheet; ComponentLink2URL: http://www.ti.com/lit/ds/symlink/sn54als137a.pdf; ComponentLink3Description: Package Specification; ComponentLink3URL: http://www.ti.com/lit/ml/mcfp004c/mcfp004c.pdf
footprint W0016A_N (CFP, 16-Leads, Body 10.92x7.24mm, Pitch 1.27mm, IPC Medium Density)
footprint W0016A_M (CFP, 16-Leads, Body 10.92x7.24mm, Pitch 1.27mm, IPC Low Density)
footprint W0016A_L (CFP, 16-Leads, Body 10.92x7.24mm, Pitch 1.27mm, IPC High Density)
pins: 1 A (in), 2 B (in), 3 C (in), 4 ~{LE} (in), 5 ~{G2} (in), 6 G1 (in), 7 ~{Y7} (out), 8 GND (power), 9 ~{Y6} (out), 10 ~{Y5} (out), 11 ~{Y4} (out), 12 ~{Y3} (out), 13 ~{Y2} (out), 14 ~{Y1} (out), 15 ~{Y0} (out), 16 VCC (power)

## SNJ54ALS138AFK
designator U?
3-Line To 8-Line Decoders/Demultiplexers, FK0020A, TUBE; Generic Part Number: SN54ALS138A; Manufacturer: Texas Instruments; PartNumber: SNJ54ALS138AFK; VCC(Min)(V): 4.5; VCC(Max)(V): 5.5; Rating: Military; Technology Family: ALS; Schmitt Trigger: No; DatasheetVersion: SDAS055E; PackageReference: FK0020A; Operating Temperature Range(C): -55 to 125; Code_JEDEC: MS-004; ComponentLink1Description: Manufacturer URL; ComponentLink1URL: http://www.ti.com/; ComponentLink2Description: Datasheet; ComponentLink2URL: http://www.ti.com/lit/ds/symlink/sn54als138a.pdf; ComponentLink3Description: Package Specification; ComponentLink3URL: http://www.ti.com/lit/ml/mlcc006d/mlcc006d.pdf
footprint FK0020A_N (LCC, 20-Leads, Body 8.9x8.9mm, Pitch 1.27mm, IPC Medium Density)
footprint FK0020A_M (LCC, 20-Leads, Body 8.9x8.9mm, Pitch 1.27mm, IPC Low Density)
footprint FK0020A_L (LCC, 20-Leads, Body 8.9x8.9mm, Pitch 1.27mm, IPC High Density)
part A pins: 2 A (in), 3 B (in), 4 C (in), 5 ~{G2A} (in), 7 ~{G2B} (in), 8 G1 (in), 9 ~{Y7} (out), 10 GND (power), 12 ~{Y6} (out), 13 ~{Y5} (out), 14 ~{Y4} (out), 15 ~{Y3} (out), 17 ~{Y2} (out), 18 ~{Y1} (out), 19 ~{Y0} (out), 20 VCC (power)
part B pins: 1 NC, 6 NC, 11 NC, 16 NC

## SNJ54ALS138AJ
designator U?
3-Line To 8-Line Decoders/Demultiplexers, J0016A, TUBE; Generic Part Number: SN54ALS138A; Manufacturer: Texas Instruments; PartNumber: SNJ54ALS138AJ; VCC(Min)(V): 4.5; VCC(Max)(V): 5.5; Rating: Military; Technology Family: ALS; Schmitt Trigger: No; DatasheetVersion: SDAS055E; PackageReference: J0016A; Operating Temperature Range(C): -55 to 125; ComponentLink1Description: Manufacturer URL; ComponentLink1URL: http://www.ti.com/; ComponentLink2Description: Datasheet; ComponentLink2URL: http://www.ti.com/lit/ds/symlink/sn54als138a.pdf; ComponentLink3Description: Package Specification; ComponentLink3URL: http://www.ti.com/lit/ml/mcer002d/mcer002d.pdf
footprint J0016A (DIP, 16-Leads, Body 21.35x7.2mm, Pitch 2.54mm)
pins: 1 A (in), 2 B (in), 3 C (in), 4 ~{G2A} (in), 5 ~{G2B} (in), 6 G1 (in), 7 ~{Y7} (out), 8 GND (power), 9 ~{Y6} (out), 10 ~{Y5} (out), 11 ~{Y4} (out), 12 ~{Y3} (out), 13 ~{Y2} (out), 14 ~{Y1} (out), 15 ~{Y0} (out), 16 VCC (power)

## SNJ54ALS138AW
designator U?
3-Line To 8-Line Decoders/Demultiplexers, W0016A, TUBE; Generic Part Number: SN54ALS138A; Manufacturer: Texas Instruments; PartNumber: SNJ54ALS138AW; VCC(Min)(V): 4.5; VCC(Max)(V): 5.5; Rating: Military; Technology Family: ALS; Schmitt Trigger: No; DatasheetVersion: SDAS055E; PackageReference: W0016A; Operating Temperature Range(C): -55 to 125; ComponentLink1Description: Manufacturer URL; ComponentLink1URL: http://www.ti.com/; ComponentLink2Description: Datasheet; ComponentLink2URL: http://www.ti.com/lit/ds/symlink/sn54als138a.pdf; ComponentLink3Description: Package Specification; ComponentLink3URL: http://www.ti.com/lit/ml/mcfp004c/mcfp004c.pdf
footprint W0016A_N (CFP, 16-Leads, Body 10.92x7.24mm, Pitch 1.27mm, IPC Medium Density)
footprint W0016A_M (CFP, 16-Leads, Body 10.92x7.24mm, Pitch 1.27mm, IPC Low Density)
footprint W0016A_L (CFP, 16-Leads, Body 10.92x7.24mm, Pitch 1.27mm, IPC High Density)
pins: 1 A (in), 2 B (in), 3 C (in), 4 ~{G2A} (in), 5 ~{G2B} (in), 6 G1 (in), 7 ~{Y7} (out), 8 GND (power), 9 ~{Y6} (out), 10 ~{Y5} (out), 11 ~{Y4} (out), 12 ~{Y3} (out), 13 ~{Y2} (out), 14 ~{Y1} (out), 15 ~{Y0} (out), 16 VCC (power)

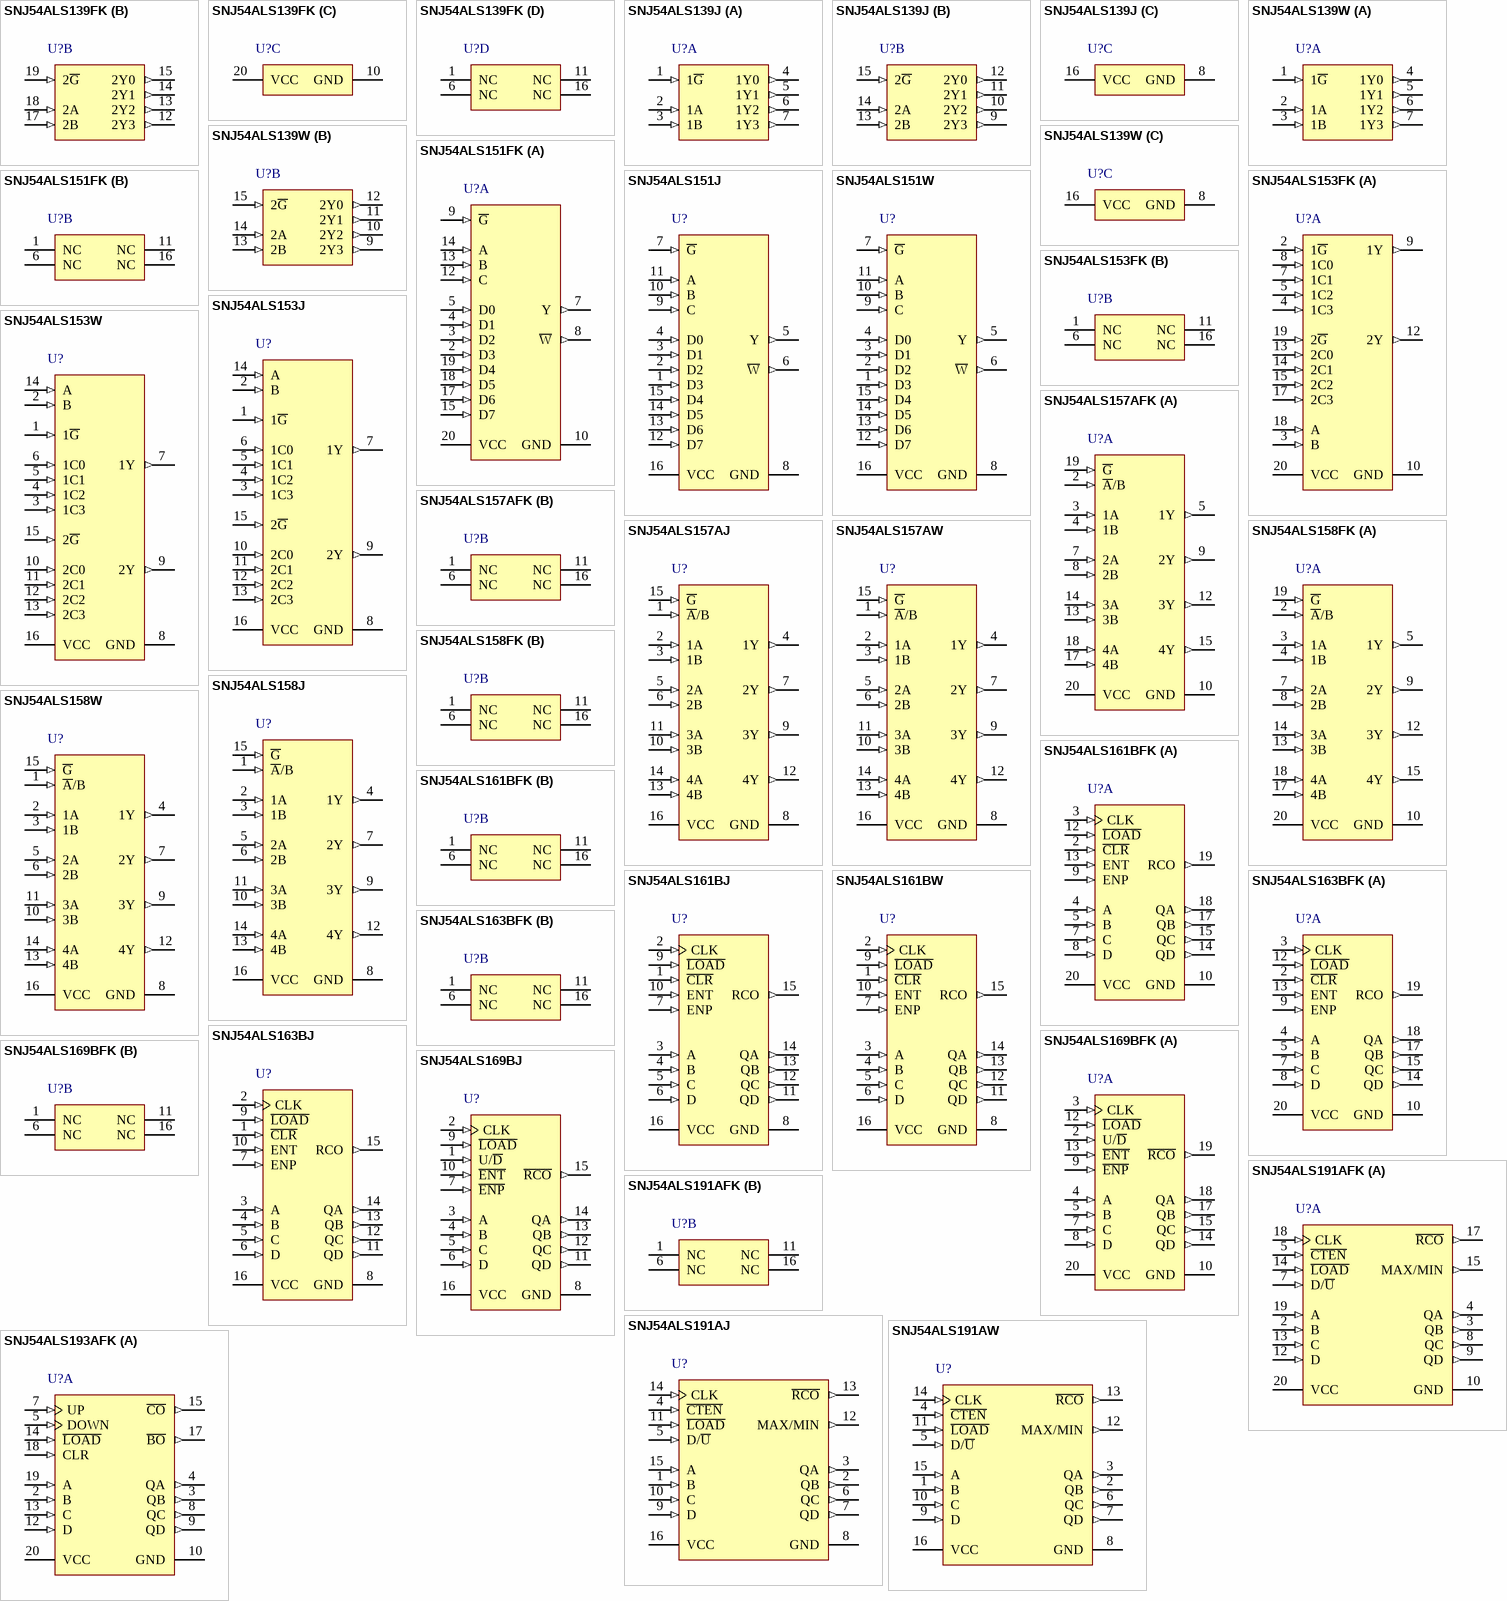
[diagram p88: symbols SNJ54ALS139FK to SNJ54ALS193AFK]

## SNJ54ALS139FK
designator U?
Dual 2-Line To 4-Line Decoders/Demultiplexers, FK0020A, TUBE; Generic Part Number: SN54ALS139; Manufacturer: Texas Instruments; PartNumber: SNJ54ALS139FK; VCC(Min)(V): 4.5; VCC(Max)(V): 5.5; Rating: Military; Technology Family: ALS; Schmitt Trigger: No; DatasheetVersion: SDAS204A; PackageReference: FK0020A; Operating Temperature Range(C): -55 to 125; Code_JEDEC: MS-004; ComponentLink1Description: Manufacturer URL; ComponentLink1URL: http://www.ti.com/; ComponentLink2Description: Datasheet; ComponentLink2URL: http://www.ti.com/lit/ds/symlink/sn54als139.pdf; ComponentLink3Description: Package Specification; ComponentLink3URL: http://www.ti.com/lit/ml/mlcc006d/mlcc006d.pdf
footprint FK0020A_N (LCC, 20-Leads, Body 8.9x8.9mm, Pitch 1.27mm, IPC Medium Density)
footprint FK0020A_M (LCC, 20-Leads, Body 8.9x8.9mm, Pitch 1.27mm, IPC Low Density)
footprint FK0020A_L (LCC, 20-Leads, Body 8.9x8.9mm, Pitch 1.27mm, IPC High Density)
part A pins: 2 1~{G} (in), 3 1A (in), 4 1B (in), 5 1Y0 (out), 7 1Y1 (out), 8 1Y2 (out), 9 1Y3 (out)
part B pins: 12 2Y3 (out), 13 2Y2 (out), 14 2Y1 (out), 15 2Y0 (out), 17 2B (in), 18 2A (in), 19 2~{G} (in)
part C pins: 10 GND (power), 20 VCC (power)
part D pins: 1 NC, 6 NC, 11 NC, 16 NC

## SNJ54ALS139J
designator U?
Dual 2-Line To 4-Line Decoders/Demultiplexers, J0016A, TUBE; Generic Part Number: SN54ALS139; Manufacturer: Texas Instruments; PartNumber: SNJ54ALS139J; VCC(Min)(V): 4.5; VCC(Max)(V): 5.5; Rating: Military; Technology Family: ALS; Schmitt Trigger: No; DatasheetVersion: SDAS204A; PackageReference: J0016A; Operating Temperature Range(C): -55 to 125; ComponentLink1Description: Manufacturer URL; ComponentLink1URL: http://www.ti.com/; ComponentLink2Description: Datasheet; ComponentLink2URL: http://www.ti.com/lit/ds/symlink/sn54als139.pdf; ComponentLink3Description: Package Specification; ComponentLink3URL: http://www.ti.com/lit/ml/mcer002d/mcer002d.pdf
footprint J0016A (DIP, 16-Leads, Body 21.35x7.2mm, Pitch 2.54mm)
part A pins: 1 1~{G} (in), 2 1A (in), 3 1B (in), 4 1Y0 (out), 5 1Y1 (out), 6 1Y2 (out), 7 1Y3 (out)
part B pins: 9 2Y3 (out), 10 2Y2 (out), 11 2Y1 (out), 12 2Y0 (out), 13 2B (in), 14 2A (in), 15 2~{G} (in)
part C pins: 8 GND (power), 16 VCC (power)

## SNJ54ALS139W
designator U?
Dual 2-Line To 4-Line Decoders/Demultiplexers, W0016A, TUBE; Generic Part Number: SN54ALS139; Manufacturer: Texas Instruments; PartNumber: SNJ54ALS139W; VCC(Min)(V): 4.5; VCC(Max)(V): 5.5; Rating: Military; Technology Family: ALS; Schmitt Trigger: No; DatasheetVersion: SDAS204A; PackageReference: W0016A; Operating Temperature Range(C): -55 to 125; ComponentLink1Description: Manufacturer URL; ComponentLink1URL: http://www.ti.com/; ComponentLink2Description: Datasheet; ComponentLink2URL: http://www.ti.com/lit/ds/symlink/sn54als139.pdf; ComponentLink3Description: Package Specification; ComponentLink3URL: http://www.ti.com/lit/ml/mcfp004c/mcfp004c.pdf
footprint W0016A_N (CFP, 16-Leads, Body 10.92x7.24mm, Pitch 1.27mm, IPC Medium Density)
footprint W0016A_M (CFP, 16-Leads, Body 10.92x7.24mm, Pitch 1.27mm, IPC Low Density)
footprint W0016A_L (CFP, 16-Leads, Body 10.92x7.24mm, Pitch 1.27mm, IPC High Density)
part A pins: 1 1~{G} (in), 2 1A (in), 3 1B (in), 4 1Y0 (out), 5 1Y1 (out), 6 1Y2 (out), 7 1Y3 (out)
part B pins: 9 2Y3 (out), 10 2Y2 (out), 11 2Y1 (out), 12 2Y0 (out), 13 2B (in), 14 2A (in), 15 2~{G} (in)
part C pins: 8 GND (power), 16 VCC (power)

## SNJ54ALS151FK
designator U?
1-Of-8 Data Selectors/Multiplexers, FK0020A, TUBE; Generic Part Number: SN54ALS151; Manufacturer: Texas Instruments; PartNumber: SNJ54ALS151FK; VCC(Min)(V): 4.5; VCC(Max)(V): 5.5; Rating: Military; Technology Family: ALS; Schmitt Trigger: No; DatasheetVersion: SDAS205A; PackageReference: FK0020A; Operating Temperature Range(C): -55 to 125; Code_JEDEC: MS-004; ComponentLink1Description: Manufacturer URL; ComponentLink1URL: http://www.ti.com/; ComponentLink2Description: Datasheet; ComponentLink2URL: http://www.ti.com/lit/ds/symlink/sn54als151.pdf; ComponentLink3Description: Package Specification; ComponentLink3URL: http://www.ti.com/lit/ml/mlcc006d/mlcc006d.pdf
footprint FK0020A_N (LCC, 20-Leads, Body 8.9x8.9mm, Pitch 1.27mm, IPC Medium Density)
footprint FK0020A_M (LCC, 20-Leads, Body 8.9x8.9mm, Pitch 1.27mm, IPC Low Density)
footprint FK0020A_L (LCC, 20-Leads, Body 8.9x8.9mm, Pitch 1.27mm, IPC High Density)
part A pins: 2 D3 (in), 3 D2 (in), 4 D1 (in), 5 D0 (in), 7 Y (out), 8 ~{W} (out), 9 ~{G} (in), 10 GND (power), 12 C (in), 13 B (in), 14 A (in), 15 D7 (in), 17 D6 (in), 18 D5 (in), 19 D4 (in), 20 VCC (power)
part B pins: 1 NC, 6 NC, 11 NC, 16 NC

## SNJ54ALS151J
designator U?
1-Of-8 Data Selectors/Multiplexers, J0016A, TUBE; Generic Part Number: SN54ALS151; Manufacturer: Texas Instruments; PartNumber: SNJ54ALS151J; VCC(Min)(V): 4.5; VCC(Max)(V): 5.5; Rating: Military; Technology Family: ALS; Schmitt Trigger: No; DatasheetVersion: SDAS205A; PackageReference: J0016A; Operating Temperature Range(C): -55 to 125; ComponentLink1Description: Manufacturer URL; ComponentLink1URL: http://www.ti.com/; ComponentLink2Description: Datasheet; ComponentLink2URL: http://www.ti.com/lit/ds/symlink/sn54als151.pdf; ComponentLink3Description: Package Specification; ComponentLink3URL: http://www.ti.com/lit/ml/mcer002d/mcer002d.pdf
footprint J0016A (DIP, 16-Leads, Body 21.35x7.2mm, Pitch 2.54mm)
pins: 1 D3 (in), 2 D2 (in), 3 D1 (in), 4 D0 (in), 5 Y (out), 6 ~{W} (out), 7 ~{G} (in), 8 GND (power), 9 C (in), 10 B (in), 11 A (in), 12 D7 (in), 13 D6 (in), 14 D5 (in), 15 D4 (in), 16 VCC (power)

## SNJ54ALS151W
designator U?
1-Of-8 Data Selectors/Multiplexers, W0016A, TUBE; Generic Part Number: SN54ALS151; Manufacturer: Texas Instruments; PartNumber: SNJ54ALS151W; VCC(Min)(V): 4.5; VCC(Max)(V): 5.5; Rating: Military; Technology Family: ALS; Schmitt Trigger: No; DatasheetVersion: SDAS205A; PackageReference: W0016A; Operating Temperature Range(C): -55 to 125; ComponentLink1Description: Manufacturer URL; ComponentLink1URL: http://www.ti.com/; ComponentLink2Description: Datasheet; ComponentLink2URL: http://www.ti.com/lit/ds/symlink/sn54als151.pdf; ComponentLink3Description: Package Specification; ComponentLink3URL: http://www.ti.com/lit/ml/mcfp004c/mcfp004c.pdf
footprint W0016A_N (CFP, 16-Leads, Body 10.92x7.24mm, Pitch 1.27mm, IPC Medium Density)
footprint W0016A_M (CFP, 16-Leads, Body 10.92x7.24mm, Pitch 1.27mm, IPC Low Density)
footprint W0016A_L (CFP, 16-Leads, Body 10.92x7.24mm, Pitch 1.27mm, IPC High Density)
pins: 1 D3 (in), 2 D2 (in), 3 D1 (in), 4 D0 (in), 5 Y (out), 6 ~{W} (out), 7 ~{G} (in), 8 GND (power), 9 C (in), 10 B (in), 11 A (in), 12 D7 (in), 13 D6 (in), 14 D5 (in), 15 D4 (in), 16 VCC (power)

## SNJ54ALS153FK
designator U?
Dual 1-Of-4 Data Selectors/Multiplexers, FK0020A, TUBE; Generic Part Number: SN54ALS153; Manufacturer: Texas Instruments; PartNumber: SNJ54ALS153FK; VCC(Min)(V): 4.5; VCC(Max)(V): 5.5; Rating: Military; Technology Family: ALS; Schmitt Trigger: No; DatasheetVersion: SDAS206A; PackageReference: FK0020A; Operating Temperature Range(C): -55 to 125; Code_JEDEC: MS-004; ComponentLink1Description: Manufacturer URL; ComponentLink1URL: http://www.ti.com/; ComponentLink2Description: Datasheet; ComponentLink2URL: http://www.ti.com/lit/ds/symlink/sn54als153.pdf; ComponentLink3Description: Package Specification; ComponentLink3URL: http://www.ti.com/lit/ml/mlcc006d/mlcc006d.pdf
footprint FK0020A_N (LCC, 20-Leads, Body 8.9x8.9mm, Pitch 1.27mm, IPC Medium Density)
footprint FK0020A_M (LCC, 20-Leads, Body 8.9x8.9mm, Pitch 1.27mm, IPC Low Density)
footprint FK0020A_L (LCC, 20-Leads, Body 8.9x8.9mm, Pitch 1.27mm, IPC High Density)
part A pins: 2 1~{G} (in), 3 B (in), 4 1C3 (in), 5 1C2 (in), 7 1C1 (in), 8 1C0 (in), 9 1Y (out), 10 GND (power), 12 2Y (out), 13 2C0 (in), 14 2C1 (in), 15 2C2 (in), 17 2C3 (in), 18 A (in), 19 2~{G} (in), 20 VCC (power)
part B pins: 1 NC, 6 NC, 11 NC, 16 NC

## SNJ54ALS153J
designator U?
Dual 1-Of-4 Data Selectors/Multiplexers, J0016A, TUBE; Generic Part Number: SN54ALS153; Manufacturer: Texas Instruments; PartNumber: SNJ54ALS153J; VCC(Min)(V): 4.5; VCC(Max)(V): 5.5; Rating: Military; Technology Family: ALS; Schmitt Trigger: No; DatasheetVersion: SDAS206A; PackageReference: J0016A; Operating Temperature Range(C): -55 to 125; ComponentLink1Description: Manufacturer URL; ComponentLink1URL: http://www.ti.com/; ComponentLink2Description: Datasheet; ComponentLink2URL: http://www.ti.com/lit/ds/symlink/sn54als153.pdf; ComponentLink3Description: Package Specification; ComponentLink3URL: http://www.ti.com/lit/ml/mcer002d/mcer002d.pdf
footprint J0016A (DIP, 16-Leads, Body 21.35x7.2mm, Pitch 2.54mm)
pins: 1 1~{G} (in), 2 B (in), 3 1C3 (in), 4 1C2 (in), 5 1C1 (in), 6 1C0 (in), 7 1Y (out), 8 GND (power), 9 2Y (out), 10 2C0 (in), 11 2C1 (in), 12 2C2 (in), 13 2C3 (in), 14 A (in), 15 2~{G} (in), 16 VCC (power)

## SNJ54ALS153W
designator U?
Dual 1-Of-4 Data Selectors/Multiplexers, W0016A, TUBE; Generic Part Number: SN54ALS153; Manufacturer: Texas Instruments; PartNumber: SNJ54ALS153W; VCC(Min)(V): 4.5; VCC(Max)(V): 5.5; Rating: Military; Technology Family: ALS; Schmitt Trigger: No; DatasheetVersion: SDAS206A; PackageReference: W0016A; Operating Temperature Range(C): -55 to 125; ComponentLink1Description: Manufacturer URL; ComponentLink1URL: http://www.ti.com/; ComponentLink2Description: Datasheet; ComponentLink2URL: http://www.ti.com/lit/ds/symlink/sn54als153.pdf; ComponentLink3Description: Package Specification; ComponentLink3URL: http://www.ti.com/lit/ml/mcfp004c/mcfp004c.pdf
footprint W0016A_N (CFP, 16-Leads, Body 10.92x7.24mm, Pitch 1.27mm, IPC Medium Density)
footprint W0016A_M (CFP, 16-Leads, Body 10.92x7.24mm, Pitch 1.27mm, IPC Low Density)
footprint W0016A_L (CFP, 16-Leads, Body 10.92x7.24mm, Pitch 1.27mm, IPC High Density)
pins: 1 1~{G} (in), 2 B (in), 3 1C3 (in), 4 1C2 (in), 5 1C1 (in), 6 1C0 (in), 7 1Y (out), 8 GND (power), 9 2Y (out), 10 2C0 (in), 11 2C1 (in), 12 2C2 (in), 13 2C3 (in), 14 A (in), 15 2~{G} (in), 16 VCC (power)

## SNJ54ALS157AFK
designator U?
Quadruple 1-Of-2 Data Selectors/Multiplexers, FK0020A, TUBE; Generic Part Number: SN54ALS157A; Manufacturer: Texas Instruments; PartNumber: SNJ54ALS157AFK; VCC(Min)(V): 4.5; VCC(Max)(V): 5.5; Rating: Military; Technology Family: ALS; Schmitt Trigger: No; DatasheetVersion: SDAS081C; PackageReference: FK0020A; Operating Temperature Range(C): -55 to 125; Code_JEDEC: MS-004; ComponentLink1Description: Manufacturer URL; ComponentLink1URL: http://www.ti.com/; ComponentLink2Description: Datasheet; ComponentLink2URL: http://www.ti.com/lit/ds/symlink/sn54als157a.pdf; ComponentLink3Description: Package Specification; ComponentLink3URL: http://www.ti.com/lit/ml/mlcc006d/mlcc006d.pdf
footprint FK0020A_N (LCC, 20-Leads, Body 8.9x8.9mm, Pitch 1.27mm, IPC Medium Density)
footprint FK0020A_M (LCC, 20-Leads, Body 8.9x8.9mm, Pitch 1.27mm, IPC Low Density)
footprint FK0020A_L (LCC, 20-Leads, Body 8.9x8.9mm, Pitch 1.27mm, IPC High Density)
part A pins: 2 ~{A}/B (in), 3 1A (in), 4 1B (in), 5 1Y (out), 7 2A (in), 8 2B (in), 9 2Y (out), 10 GND (power), 12 3Y (out), 13 3B (in), 14 3A (in), 15 4Y (out), 17 4B (in), 18 4A (in), 19 ~{G} (in), 20 VCC (power)
part B pins: 1 NC, 6 NC, 11 NC, 16 NC